# Altium footprint library Quectel.PcbLib: 5 footprints
Each footprint in its own frame and in the unit in brackets; x right, y up, seen from the top. Pads: shape width x height; smd on the part's side, far side on the other; paste and mask are expansions set on the pad; w line width, h text height; cw(c..) or ccw(c..) is an arc to the next point about the centre after c.
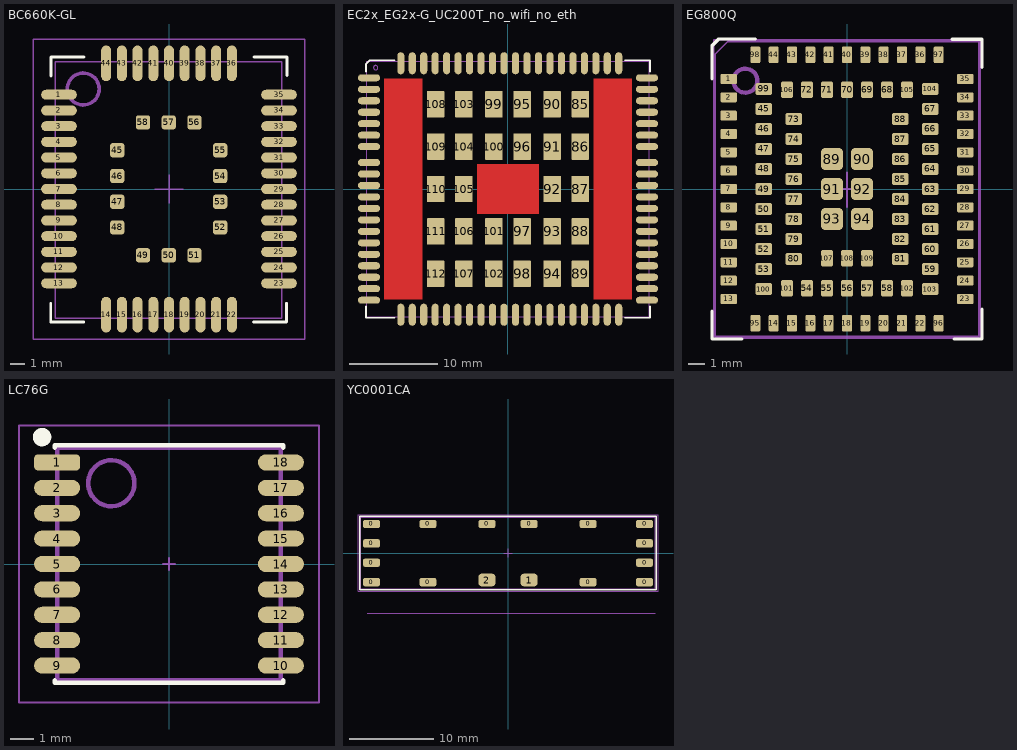
[diagram p0: the footprints below, top view; thin cyan lines are the x and y axes]

## BC660K-GL [mm] "NB-IoT Quectel footprint"
height 2
pads (58):
  oval 2.5x0.7 smd: 1(-7.7,6.6) 2(-7.7,5.5) 3(-7.7,4.4) 4(-7.7,3.3) 5(-7.7,2.2) 6(-7.7,1.1) 7(-7.7,0) 8(-7.7,-1.1) 9(-7.7,-2.2) 10(-7.7,-3.3) 11(-7.7,-4.4) 12(-7.7,-5.5) 13(-7.7,-6.6) 23(7.7,-6.6) 24(7.7,-5.5) 25(7.7,-4.4) 26(7.7,-3.3) 27(7.7,-2.2) 28(7.7,-1.1) 29(7.7,0) 30(7.7,1.1) 31(7.7,2.2) 32(7.7,3.3) 33(7.7,4.4) 34(7.7,5.5) 35(7.7,6.6)
  oval 0.7x2.5 smd: 14(-4.4,-8.8) 15(-3.3,-8.8) 16(-2.2,-8.8) 17(-1.1,-8.8) 18(0,-8.8) 19(1.1,-8.8) 20(2.2,-8.8) 21(3.3,-8.8) 22(4.4,-8.8) 36(4.4,8.8) 37(3.3,8.8) 38(2.2,8.8) 39(1.1,8.8) 40(0,8.8) 41(-1.1,8.8) 42(-2.2,8.8) 43(-3.3,8.8) 44(-4.4,8.8)
  rrect40% 1x1 smd: 45(-3.62,2.71) 46(-3.62,0.91) 47(-3.62,-0.89) 48(-3.62,-2.69) 49(-1.82,-4.64) 50(-0.02,-4.64) 51(1.78,-4.64) 52(3.58,-2.69) 53(3.58,-0.89) 54(3.58,0.91) 55(3.58,2.71) 56(1.78,4.66) 57(-0.02,4.66) 58(-1.82,4.66)
Top Overlay:
  lines w0.2: -8.28,-8.02 -8.28,-9.32 -5.97,-9.32 ; -8.25,7.92 -8.25,9.24 -5.94,9.24 ; 5.91,-9.32 8.22,-9.32 8.22,-8 ; 5.94,9.24 8.25,9.24 8.25,7.94
3D Top:
  circle w0.254: c-6,7 r1.118
  lines w0.1: -7.95,-9.05 -7.95,8.91 7.89,8.91 7.89,-9.05 -7.95,-9.05
Courtyard Top:
  lines w0.1: -1,0 1,0 ; 0,-1 0,1 ; -9.5,-10.5 -9.5,10.5 9.5,10.5 9.5,-10.5 -9.5,-10.5
3D body: height 2, standoff 0.6, extent -7.2,-8.3 7.2,8.3
3D body: height 0.6, standoff 0, extent -7.95,-9.05 7.89,8.91

## EC2x_EG2x-G_UC200T_no_wifi_no_eth [mm] "universal footprint for EC2x, EG2x-G, UC200T, no wifi and no ethernet pads"
height 2.4
pads (108):
  oval 2.5x0.8 smd: 1(-15.75,12.6) 2(-15.75,11.3) 3(-15.75,10) 4(-15.75,8.7) 5(-15.75,7.4) 6(-15.75,6.1) 7(-15.75,4.8) 8(-15.75,0.4) 9(-15.75,-0.9) 10(-15.75,-2.2) 11(-15.75,-3.5) 12(-15.75,-4.8) 13(-15.75,-6.1) 14(-15.75,-7.4) 15(-15.75,-8.7) 16(-15.75,-10) 17(-15.75,-11.3) 18(-15.75,-12.6) 37(15.75,-12.6) 38(15.75,-11.3) 39(15.75,-10) 40(15.75,-8.7) 41(15.75,-7.4) 42(15.75,-6.1) 43(15.75,-4.8) 44(15.75,-3.5) 45(15.75,-2.2) 46(15.75,-0.9) 47(15.75,0.4) 48(15.75,4.8) 49(15.75,6.1) 50(15.75,7.4) 51(15.75,8.7) 52(15.75,10) 53(15.75,11.3) 54(15.75,12.6) 141(-15.75,3) 142(-15.75,1.7) 143(15.75,1.7) 144(15.75,3)
  oval 0.8x2.5 smd: 19(-9.55,-14.25) 20(-8.25,-14.25) 21(-6.95,-14.25) 22(-5.65,-14.25) 23(-4.35,-14.25) 24(-3.05,-14.25) 25(-1.75,-14.25) 26(-0.45,-14.25) 27(0.85,-14.25) 28(2.15,-14.25) 29(3.45,-14.25) 30(4.75,-14.25) 31(6.05,-14.25) 32(7.35,-14.25) 33(8.65,-14.25) 34(9.95,-14.25) 35(11.25,-14.25) 36(12.55,-14.25) 55(12.55,14.25) 56(11.25,14.25) 57(9.95,14.25) 58(8.65,14.25) 59(7.35,14.25) 60(6.05,14.25) 61(4.75,14.25) 62(3.45,14.25) 63(2.15,14.25) 64(0.85,14.25) 65(-0.45,14.25) 66(-1.75,14.25) 67(-3.05,14.25) 68(-4.35,14.25) 69(-5.65,14.25) 70(-6.95,14.25) 71(-8.25,14.25) 72(-9.55,14.25) 113(-10.85,14.25) 114(-12.15,14.25) 115(-10.85,-14.25) 116(-12.15,-14.25)
  rrect10% 2x3 smd: 85(8.2,9.6) 86(8.2,4.8) 87(8.2,0) 88(8.2,-4.8) 89(8.2,-9.6) 90(5,9.6) 91(5,4.8) 92(5,0) 93(5,-4.8) 94(5,-9.6) 95(1.6,9.6) 96(1.6,4.8) 97(1.6,-4.8) 98(1.6,-9.6) 99(-1.6,9.6) 100(-1.6,4.8) 101(-1.6,-4.8) 102(-1.6,-9.6) 103(-5,9.6) 104(-5,4.8) 105(-5,0) 106(-5,-4.8) 107(-5,-9.6) 108(-8.2,9.6) 109(-8.2,4.8) 110(-8.2,0) 111(-8.2,-4.8) 112(-8.2,-9.6)
Top Layer:
  pour cut-out: -3.5,2.8 3.5,2.8 3.5,-2.8 -3.5,-2.8
  pour cut-out: -9.7,12.5 -14,12.5 -14,-12.5 -9.7,-12.5
  pour cut-out: 9.7,-12.5 14,-12.5 14,12.5 9.7,12.5
Top Overlay:
  lines w0.2: -16.1,-13.3 -16.1,-14.6 -12.85,-14.6 ; -16.1,13.3 -16.1,14.15 -15.65,14.6 -12.85,14.6 ; 13.25,-14.6 16.1,-14.6 16.1,-13.3 ; 13.275,14.6 16.1,14.6 16.1,13.3
3D Top:
  circle w0.1: c-15,13.75 r0.25
  lines w0.1: -16,-14.5 16,-14.5 16,14.5 -16,14.5 -16,-14.5
  text "Top" at -3,-0.8 h0.5
  text "Keepout" at -3,1.2 h0.5
  text "Keepout" at -11.7,-7.5 h0.5
  text "Top" at -11.7,4.5 h0.5
  text "Top" at 11.7,-4.5 h0.5
  text "Keepout" at 11.7,7.5 h0.5
3D body: height 1.6, standoff 0.8, extent -15.75,-14.25 15.75,14.25
3D body: height 0.8, standoff 0, extent -16,-14.5 16,14.5

## EG800Q [mm] "LTE module"
height 2.4
pads (109):
  rrect30% 1x0.6 smd: 1(-7.1,6.602) 2(-7.1,5.502) 3(-7.1,4.402) 4(-7.1,3.302) 5(-7.1,2.202) 6(-7.1,1.102) 7(-7.1,0.002) 8(-7.1,-1.098) 9(-7.1,-2.198) 10(-7.1,-3.298) 11(-7.1,-4.398) 12(-7.1,-5.498) 13(-7.1,-6.598) 23(7.1,-6.598) 24(7.1,-5.498) 25(7.1,-4.398) 26(7.1,-3.298) 27(7.1,-2.198) 28(7.1,-1.098) 29(7.1,0.002) 30(7.1,1.102) 31(7.1,2.202) 32(7.1,3.302) 33(7.1,4.402) 34(7.1,5.502) 35(7.1,6.602)
  rrect30% 0.6x1 smd: 14(-4.401,-8.05) 15(-3.301,-8.05) 16(-2.201,-8.05) 17(-1.101,-8.05) 18(-0.001,-8.05) 19(1.099,-8.05) 20(2.199,-8.05) 21(3.299,-8.05) 22(4.399,-8.05) 36(4.399,8.05) 37(3.299,8.05) 38(2.199,8.05) 39(1.099,8.05) 40(-0.001,8.05) 41(-1.101,8.05) 42(-2.201,8.05) 43(-3.301,8.05) 44(-4.401,8.05) 95(-5.501,-8.05) 96(5.499,-8.05) 97(5.499,8.05) 98(-5.501,8.05)
  rrect30% 1x0.7 smd: 45(-5,4.8) 46(-5,3.6) 47(-5,2.4) 48(-5,1.2) 49(-5,0) 50(-5,-1.2) 51(-5,-2.4) 52(-5,-3.6) 53(-5,-4.8) 59(5,-4.8) 60(5,-3.6) 61(5,-2.4) 62(5,-1.2) 63(5,0) 64(5,1.2) 65(5,2.4) 66(5,3.6) 67(5,4.8) 73(-3.2,4.2) 74(-3.2,3) 75(-3.2,1.8) 76(-3.2,0.6) 77(-3.2,-0.6) 78(-3.2,-1.8) 79(-3.2,-3) 80(-3.2,-4.2) 81(3.2,-4.2) 82(3.2,-3) 83(3.2,-1.8) 84(3.2,-0.6) 85(3.2,0.6) 86(3.2,1.8) 87(3.2,3) 88(3.2,4.2) 99(-5,6) 100(-5,-6) 103(5,-6) 104(5,6)
  rrect30% 0.7x1 smd: 54(-2.4,-5.95) 55(-1.2,-5.95) 56(0,-5.95) 57(1.2,-5.95) 58(2.4,-5.95) 68(2.4,5.95) 69(1.2,5.95) 70(0,5.95) 71(-1.2,5.95) 72(-2.4,5.95) 101(-3.6,-5.95) 102(3.6,-5.95) 105(3.6,5.95) 106(-3.6,5.95) 107(-1.2,-4.15) 108(0,-4.15) 109(1.2,-4.15)
  rrect30% 1.3x1.3 smd: 89(-0.9,1.8) 90(0.9,1.8) 91(-0.9,0) 92(0.9,0) 93(-0.9,-1.8) 94(0.9,-1.8)
Top Overlay:
  lines w0.2: -8.1,-7.325 -8.1,-9 -6.3,-9 ; -8.1,6.6 -8.1,8.6 -7.7,9 -5.5,9 ; 6.3,8.975 8.1,8.975 8.1,7.3 ; 6.425,-9 8.1,-9 8.1,-7.2
3D Top:
  circle w0.254: c-6.1,6.5 r0.721
  lines w0.1: -7.9,7.4 -7.9,8.1 -7.15,8.85 7.9,8.85 7.9,-8.848 -7.9,-8.848 -7.9,7.402
Courtyard Top:
  lines w0.1: -1.2,0 1.2,0 ; 0,-1.1 0,1 ; -8,-8.95 -8,7.4 -8,8.95 8,8.95 8,-8.95 -8,-8.95
3D body: height 0.8, standoff 0, extent -7.9,-8.848 7.9,8.85
3D body: height 2.4, standoff 0.8, extent -7.2,-8.2 7.3,8.3

## LC76G [mm] "LC76G without SPI pins - standard pinout"
height 2.4
pads (18):
  rrect50% 2x0.7 smd: 1(-4.85,4.4)
  oval 2x0.7 smd: 2(-4.85,3.3) 3(-4.85,2.2) 4(-4.85,1.1) 5(-4.85,0) 6(-4.85,-1.1) 7(-4.85,-2.2) 8(-4.85,-3.3) 9(-4.85,-4.4) 10(4.85,-4.4) 11(4.85,-3.3) 12(4.85,-2.2) 13(4.85,-1.1) 14(4.85,0) 15(4.85,1.1) 16(4.85,2.2) 17(4.85,3.3) 18(4.85,4.4)
Top Overlay:
  circle w0.4: c-5.5,5.5 r0.2
  lines w0.2: -4.95,-5.05 -4.95,-5.15 4.95,-5.15 4.95,-5.05 ; -4.95,5.05 -4.95,5.15 4.95,5.15 4.95,5.05
3D Top:
  circle w0.2: c-2.5,3.5 r1
  lines w0.2: -4.85,-5.05 4.85,-5.05 4.85,5.05 -4.85,5.05 -4.85,-5.05
Courtyard Top:
  lines w0.1: -0.25,0 0.25,0 ; 0,-0.25 0,0.25 ; -6.5,-6 -6.5,6 6.5,6 6.5,-6 -6.5,-6
3D body: height 2.52, standoff 0, extent -4.85,-5.05 4.85,5.05

## YC0001CA [mm] "4G SMD Antenna"
height 3
pads (16):
  rrect50% 2x1 smd: 0(-16.2,-3.45) 0(-16.2,-1.15) 0(-16.2,1.15) 0(-16.2,3.45) 0(-9.5,-3.45) 0(-9.5,3.45) 0(-2.5,3.45) 0(2.5,3.45) 0(9.5,-3.45) 0(9.5,3.45) 0(16.2,-3.45) 0(16.2,-1.15) 0(16.2,1.15) 0(16.2,3.45)
  rrect50% 2x1.5 smd: 1(2.5,-3.2) 2(-2.5,-3.2)
Top Overlay:
  lines w0.2: -17.6,-4.35 -17.6,4.35 17.6,4.35 17.6,-4.35 -17.6,-4.35
Top Solder:
  text "YC0001CA" at -3.85,0.675 h1
  text "698-2690MHz" at -5.2,-1.5 h1
3D Top:
  lines w0.1: -16.7,-7.15 17.5,-7.15 ; -17.5,-4.25 -17.5,4.25 17.5,4.25 17.5,-4.25 -17.5,-4.25
  text "GND" at -16.65,-7 h0.5
Courtyard Top:
  lines w0.1: -0.5,0 0.5,0 ; 0,-0.5 0,0.5 ; -17.8,-4.55 -17.8,4.55 17.8,4.55 17.8,-4.55 -17.8,-4.55
3D body: height 3, standoff 0, extent -17.5,-4.25 17.5,4.25